# EAGLE library part 1X15 (library pimoroni-connectors)
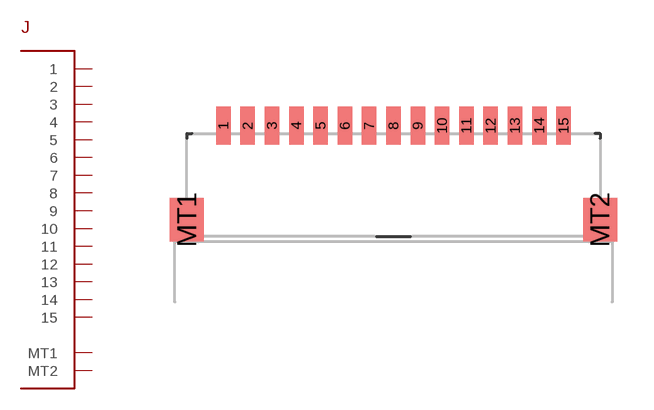
[diagram p21: symbol with the pads of JST_SH_1.0MM_15P; footprint JST_SH_1.0MM_15P]

Designator prefix J

## 1X15  [JST_SH_1.0MM_15P]
1  1
2  2
3  3
4  4
5  5
6  6
7  7
8  8
9  9
10  10
11  11
12  12
13  13
14  14
15  15
MT1  MT1
MT2  MT2

## Footprint JST_SH_1.0MM_15P (pad centres in mm)
smd 0.6 x 1.55: 1 -7,4.775; 2 -6,4.775; 3 -5,4.775; 4 -4,4.775; 5 -3,4.775; 6 -2,4.775; 7 -1,4.775; 8 0,4.775; 9 1,4.775; 10 2,4.775; 11 3,4.775; 12 4,4.775; 13 5,4.775; 14 6,4.775; 15 7,4.775
smd 1.4 x 1.8: MT1 -8.5,0.9; MT2 8.5,0.9